# EAGLE library part FM24CL64B (library memoris)
FM24CL64B edit this description Auto generated by make-symbol-device-package-bsdl.ulp Rev. 44 Source: FM24CL64B.txt
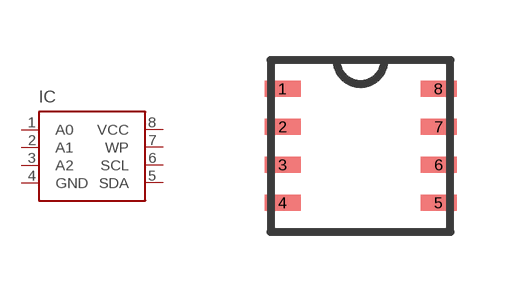
[diagram p1: symbol with the pads of DFN8; footprint DFN8]

Designator prefix IC

## FM24CL64B  [DFN8]
1  A0  in
2  A1  in
3  A2  in
4  GND  pwr
5  SDA
6  SCL
7  WP  in
8  VCC  pwr

## Footprint DFN8 (pad centres in mm)
DFN8 Auto generated by make-symbol-device-package-bsdl.ulp Rev. 44
smd 0.9 x 0.4: 1 -1.95,1.425; 2 -1.95,0.475; 3 -1.95,-0.475; 4 -1.95,-1.425; 5 1.95,-1.425; 6 1.95,-0.475; 7 1.95,0.475; 8 1.95,1.425